# Altium schematic symbol library SP0505BAHTG.Schlib: 1 symbol
Pins are listed as number, name and electrical type; pins without a type are passive.

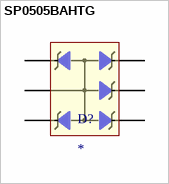
[diagram p0: symbol SP0505BAHTG]

## SP0505BAHTG
designator D?
IC DIODE TRANS VOLT SUPPR 5 PACKAGE
pins: 1, 2, 3, 4, 5, 6